# Altium schematic symbol library libysk_passive.SchLib: 10 symbols
Pins are listed as number, name and electrical type; pins without a type are passive.

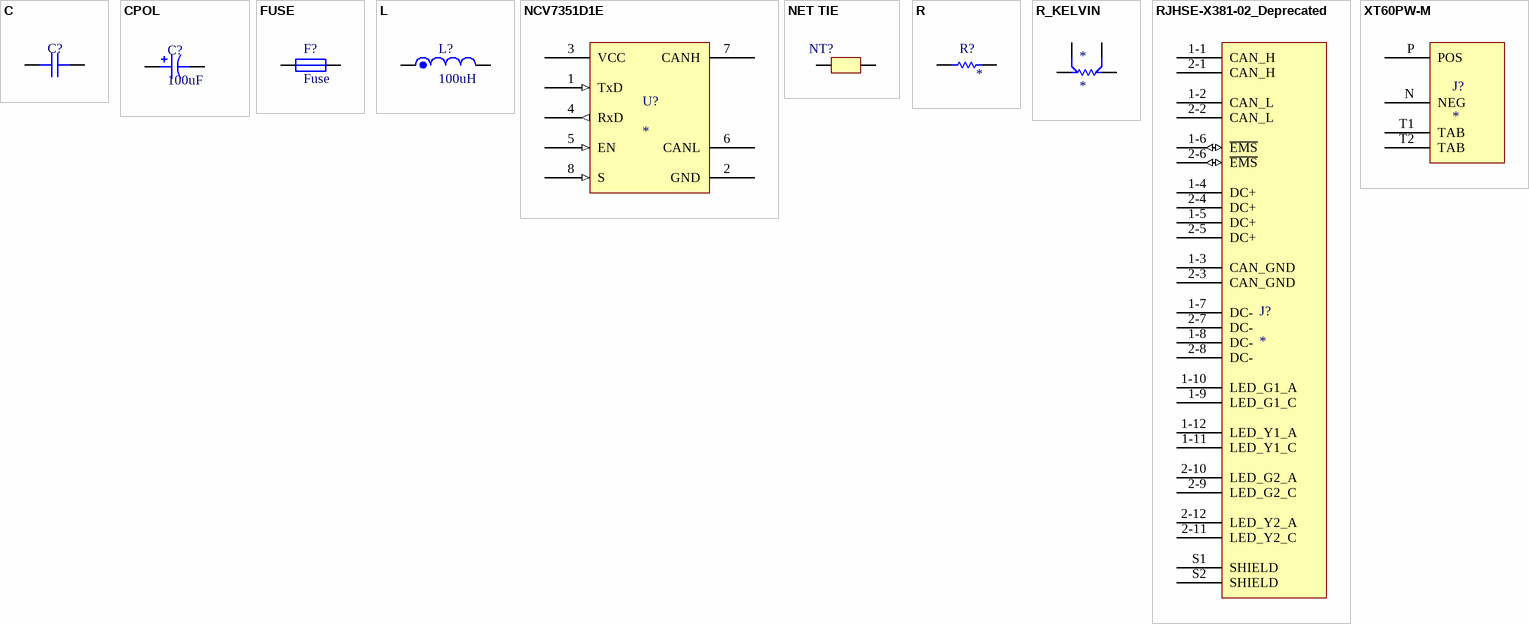
[diagram p0: symbols C to XT60PW-M]

## C
designator C?
footprint C0603N (Chip Capacitor, 2-Leads, Body 1.60x0.80mm, IPC Medium Density)
footprint C1210N (Chip Capacitor, 2-Leads, Body 3.20x2.50mm, IPC Medium Density)
footprint C0805N (Chip Capacitor, 2-Leads, Body 2.00x1.25mm, IPC Medium Density)
pins: 1, 2

## CPOL
designator C?, comment 100uF
footprint CPOL_8x11_5_THRU (Capacitor with polarity, Radial lead, D=5mm, H=11mm, Pitch 5mm, Through-hole)
pins: 1, 2

## FUSE
designator F?, comment Fuse
footprint Littelfuse_157 (Surface ount Fuse Assy, 2-Leads, Body 6.10x2.69mm, IPC Medium Density)
footprint LITTELFUSE_154
pins: 1, 2

## L
designator L?, comment 100uH
footprint SRP1265A (Molded Inductor, 2-Leads, Body 12.50x12.50mm, IPC Medium Density)
footprint VLS5045EX_TDK (Precision Wire Wound Inductor, 2-Leads, Body 5.00x5.00mm, IPC Medium Density)
pins: 1, 2

## NCV7351D1E
designator U?
footprint SOIC127P600X175-8N (SOIC, 8-Leads, Body 4.90x3.90mm, Pitch 1.27mm, IPC Medium Density)
pins: 1 TxD (in) "Transmit data input; low input -> dominant driver", 2 GND (power), 3 VCC (power), 4 RxD (out), 5 EN (in), 6 CANL, 7 CANH, 8 S (in)

## NET TIE
designator NT?, comment Net tie  (value not drawn)  (net tie, no BOM)
footprint NET_TIE_0_2 (Net tie, 0.2mm width)
pins: 1, 2

## R
designator R?
Resistance: *
footprint CR0603 (Bourns Chip Resistor, CR Series, 2-Leads, Body 1.60x0.80mm, IPC Low Density)
footprint CR0805 (Bourns Chip Resistor, CR Series, 2-Leads, Body 2.00x1.25mm, IPC Low Density)
footprint CR1206 (Bourns Chip Resistor, CR Series, 2-Leads, Body 3.20x1.60mm, IPC Low Density)
footprint RESC1608X05N (Chip Resistor, 2-Leads, Body 1.60x0.80mm, IPC Medium Density)
footprint R1206N (Chip Resistor, 2-Leads, Body 3.20x1.60mm, IPC Medium Density)
footprint R0603N (Chip Resistor, 2-Leads, Body 1.60x0.80mm, IPC Medium Density)
pins: 1, 2

## R_KELVIN
designator *
footprint CSS2H-2512N_KELVIN
pins: 1, 2, 3, 4

## RJHSE-X381-02_Deprecated
designator J?
footprint RJHSE-X38X-02
pins: 1-1 CAN_H, 1-2 CAN_L, 1-3 CAN_GND, 1-4 DC+, 1-5 DC+, 1-6 ~{EMS} (io), 1-7 DC-, 1-8 DC-, 1-9 LED_G1_C, 1-10 LED_G1_A, 1-11 LED_Y1_C, 1-12 LED_Y1_A, 2-1 CAN_H, 2-2 CAN_L, 2-3 CAN_GND, 2-4 DC+, 2-5 DC+, 2-6 ~{EMS} (io), 2-7 DC-, 2-8 DC-, 2-9 LED_G2_C, 2-10 LED_G2_A, 2-11 LED_Y2_C, 2-12 LED_Y2_A, S1 SHIELD, S2 SHIELD

## XT60PW-M
designator J?
XT60, Male, THT, R/A
footprint XT60PW-M (XT60, 2 pins, Male, PCB mount, TH, R/A)
pins: N NEG, P POS, T1 TAB, T2 TAB